# EAGLE library part 74099-17 (library con-molex-c-grid)
C-Grid SL
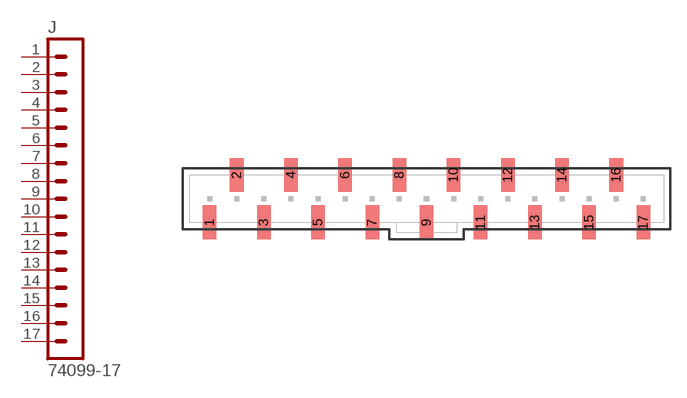
[diagram p51: symbol with the pads of 74099-17; footprint 74099-17]

Designator prefix J

## 74099-17  [74099-17]
1  1  pas
2  2  pas
3  3  pas
4  4  pas
5  5  pas
6  6  pas
7  7  pas
8  8  pas
9  9  pas
10  10  pas
11  11  pas
12  12  pas
13  13  pas
14  14  pas
15  15  pas
16  16  pas
17  17  pas

## Footprint 74099-17 (pad centres in mm)
C-Grid SL vertical, SMD
smd 1.27 x 3.175: 1 -20.32,-2.223; 2 -17.78,2.223; 3 -15.24,-2.223; 4 -12.7,2.223; 5 -10.16,-2.223; 6 -7.62,2.223; 7 -5.08,-2.223; 8 -2.54,2.223; 9 0,-2.223; 10 2.54,2.223; 11 5.08,-2.223; 12 7.62,2.223; 13 10.16,-2.223; 14 12.7,2.223; 15 15.24,-2.223; 16 17.78,2.223; 17 20.32,-2.223